# Altium schematic symbol library 216700-0249.SchLib: 1 symbol
Pins are listed as number, name and electrical type; pins without a type are passive.

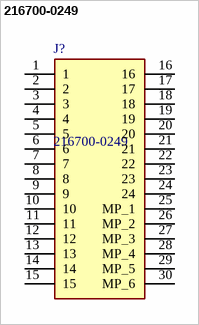
[diagram p0: symbol 216700-0249]

## 216700-0249
designator J?
Board to Board & Mezzanine Connectors Board-to-Board Recept 0.35mm Pitch  0.60mm Mated Hght 1.90mm Mated Width 24 Ckts; Manufacturer_Name: Molex; Geometry.Height: 0.66mm; Manufacturer_Part_Number: 216700-0249; Mouser Part Number: *; Mouser Price/Stock: *; Arrow Part Number: *; Arrow Price/Stock: *; Datasheet Link: https://www.molex.com/content/dam/molex/molex-dot-com/products/automated/en-us/salesdrawingpdf/216/216700/2167000249_sd.pdf
footprint 2167000249
pins: 1, 2, 3, 4, 5, 6, 7, 8, 9, 10, 11, 12, 13, 14, 15, 16, 17, 18, 19, 20, 21, 22, 23, 24, 25 MP_1, 26 MP_2, 27 MP_3, 28 MP_4, 29 MP_5, 30 MP_6